# Altium footprint library Kemet.PcbLib: 32 footprints (part 2 of 2)
Each footprint in its own frame and in the unit in brackets; x right, y up, seen from the top. Pads: shape width x height; smd on the part's side, far side on the other; paste and mask are expansions set on the pad; w line width, h text height; cw(c..) or ccw(c..) is an arc to the next point about the centre after c.
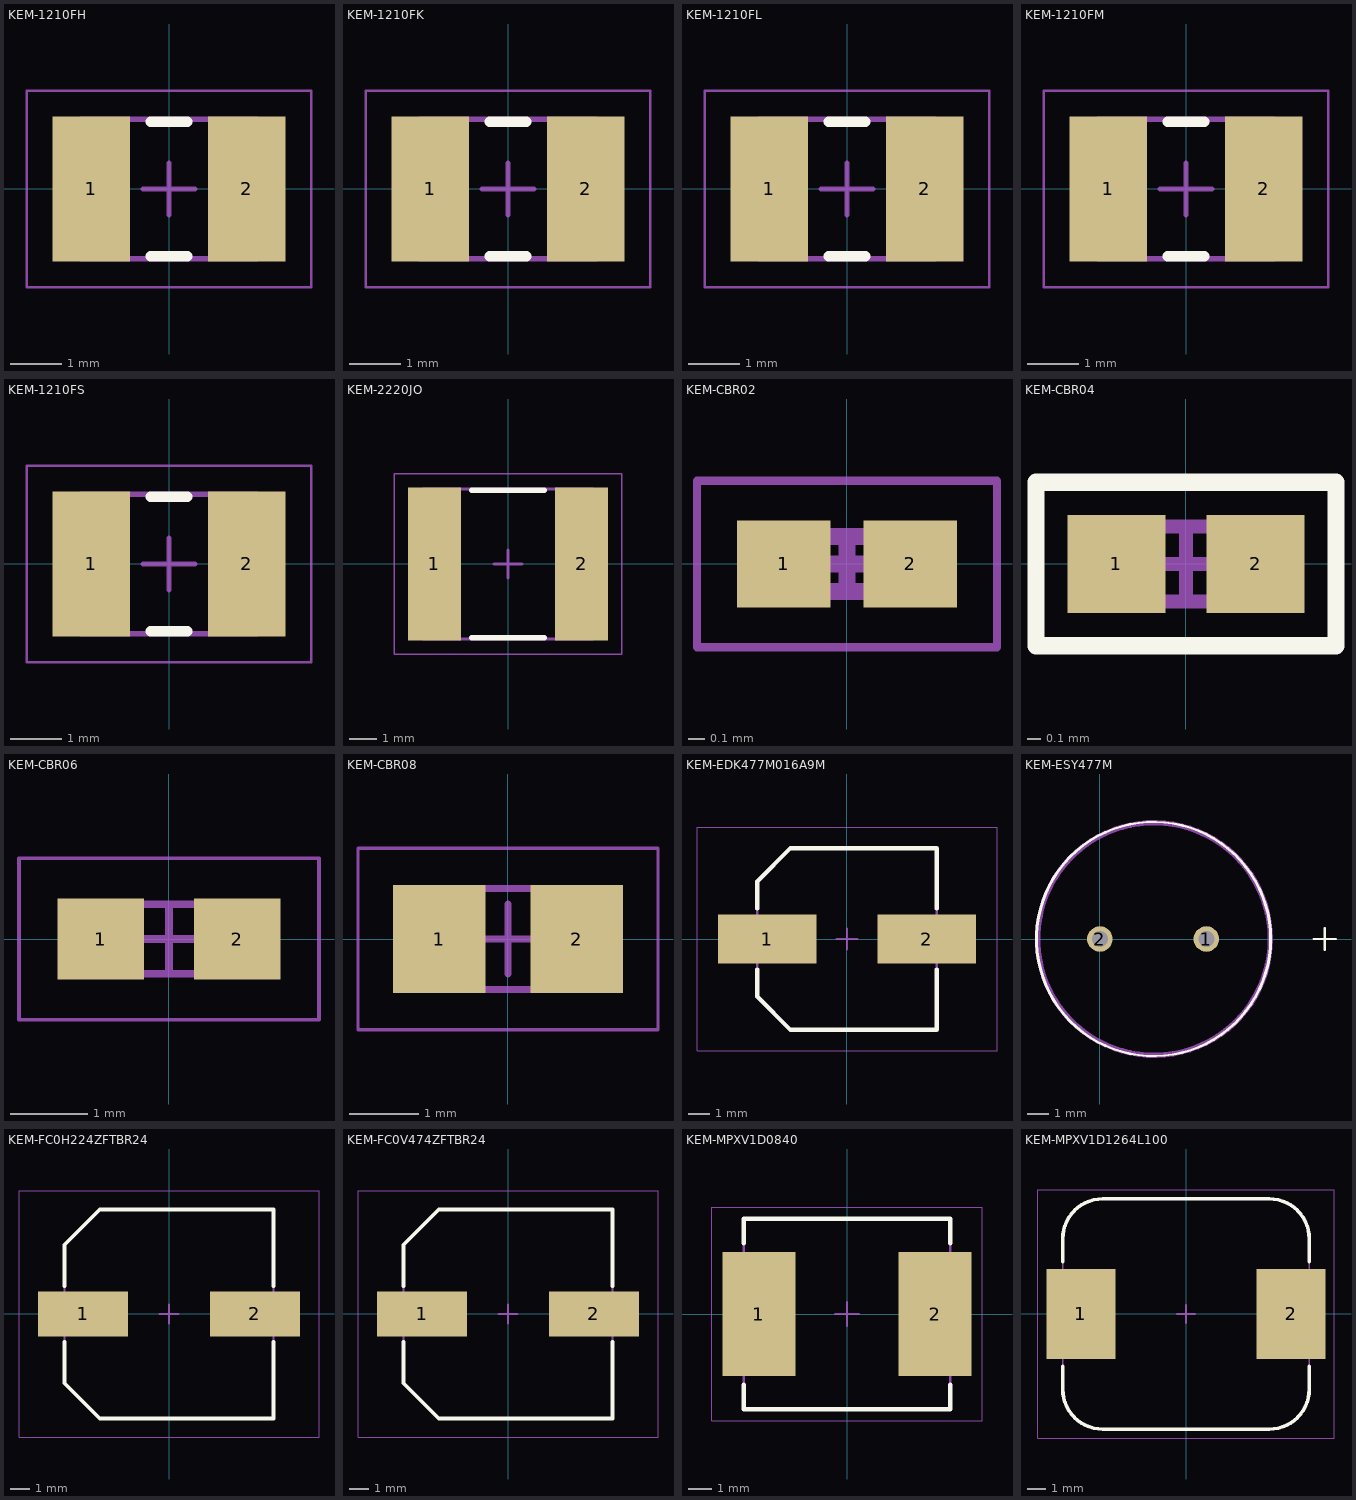
[diagram p1: the footprints below, top view; thin cyan lines are the x and y axes]

## KEM-1210FH [mm] "Chip Capacitor, 2-Leads, Body 3.20x2.50mm, IPC Low Density"
height 1.7
pads (2):
  rect 1.5x2.8 smd: 1(-1.5,0) 2(1.5,0)
Top Overlay:
  lines w0.2: -0.35,-1.3 0.35,-1.3 ; -0.35,1.3 0.35,1.3
Mechanical 13:
  lines w0.1: -1.7,-1.35 1.7,-1.35 1.7,1.35 -1.7,1.35 -1.7,-1.35
Mechanical 15:
  lines w0.05: -2.75,-1.9 2.75,-1.9 2.75,1.9 -2.75,1.9 -2.75,-1.9
  lines w0.1: -0.5,0 0.5,0 ; 0,-0.5 0,0.5
3D body: height 1.7, standoff 0, extent 1.2,-1.35 1.7,1.35
3D body: height 1.7, standoff 0, extent -1.7,-1.35 -1.2,1.35
3D body: height 1.7, standoff 0, extent -1.2,-1.35 1.2,1.35

## KEM-1210FK [mm] "Chip Capacitor, 2-Leads, Body 3.20x2.50mm, IPC Low Density"
height 2.3
pads (2):
  rect 1.5x2.8 smd: 1(-1.5,0) 2(1.5,0)
Top Overlay:
  lines w0.2: -0.35,-1.3 0.35,-1.3 ; -0.35,1.3 0.35,1.3
Mechanical 13:
  lines w0.1: -1.7,-1.35 -1.7,1.35 1.7,1.35 1.7,-1.35 -1.7,-1.35
Mechanical 15:
  lines w0.05: -2.75,-1.9 -2.75,1.9 2.75,1.9 2.75,-1.9 -2.75,-1.9
  lines w0.1: -0.5,0 0.5,0 ; 0,-0.5 0,0.5
3D body: height 2.3, standoff 0, extent -1.2,-1.35 1.2,1.35
3D body: height 2.3, standoff 0, extent -1.7,-1.35 -1.2,1.35
3D body: height 2.3, standoff 0, extent 1.2,-1.35 1.7,1.35

## KEM-1210FL [mm] "Chip Capacitor, 2-Leads, Body 3.20x2.50mm, IPC Low Density"
height 1.55
pads (2):
  rect 1.5x2.8 smd: 1(-1.5,0) 2(1.5,0)
Top Overlay:
  lines w0.2: -0.35,-1.3 0.35,-1.3 ; -0.35,1.3 0.35,1.3
Mechanical 13:
  lines w0.1: -1.7,-1.35 1.7,-1.35 1.7,1.35 -1.7,1.35 -1.7,-1.35
Mechanical 15:
  lines w0.05: -2.75,-1.9 2.75,-1.9 2.75,1.9 -2.75,1.9 -2.75,-1.9
  lines w0.1: -0.5,0 0.5,0 ; 0,-0.5 0,0.5
3D body: height 1.55, standoff 0, extent 1.2,-1.35 1.7,1.35
3D body: height 1.55, standoff 0, extent -1.7,-1.35 -1.2,1.35
3D body: height 1.55, standoff 0, extent -1.2,-1.35 1.2,1.35

## KEM-1210FM [mm] "Chip Capacitor, 2-Leads, Body 3.20x2.50mm, IPC Low Density"
height 1.9
pads (2):
  rect 1.5x2.8 smd: 1(-1.5,0) 2(1.5,0)
Top Overlay:
  lines w0.2: -0.35,-1.3 0.35,-1.3 ; -0.35,1.3 0.35,1.3
Mechanical 13:
  lines w0.1: -1.7,-1.35 1.7,-1.35 1.7,1.35 -1.7,1.35 -1.7,-1.35
Mechanical 15:
  lines w0.05: -2.75,-1.9 2.75,-1.9 2.75,1.9 -2.75,1.9 -2.75,-1.9
  lines w0.1: -0.5,0 0.5,0 ; 0,-0.5 0,0.5
3D body: height 1.9, standoff 0, extent 1.2,-1.35 1.7,1.35
3D body: height 1.9, standoff 0, extent -1.7,-1.35 -1.2,1.35
3D body: height 1.9, standoff 0, extent -1.2,-1.35 1.2,1.35

## KEM-1210FS [mm] "Chip Capacitor, 2-Leads, Body 3.20x2.50mm, IPC Low Density"
height 2.8
pads (2):
  rect 1.5x2.8 smd: 1(-1.5,0) 2(1.5,0)
Top Overlay:
  lines w0.2: -0.35,-1.3 0.35,-1.3 ; -0.35,1.3 0.35,1.3
Mechanical 13:
  lines w0.1: -1.7,-1.35 -1.7,1.35 1.7,1.35 1.7,-1.35 -1.7,-1.35
Mechanical 15:
  lines w0.05: -2.75,-1.9 -2.75,1.9 2.75,1.9 2.75,-1.9 -2.75,-1.9
  lines w0.1: -0.5,0 0.5,0 ; 0,-0.5 0,0.5
3D body: height 2.8, standoff 0, extent -1.2,-1.35 1.2,1.35
3D body: height 2.8, standoff 0, extent -1.7,-1.35 -1.2,1.35
3D body: height 2.8, standoff 0, extent 1.2,-1.35 1.7,1.35

## KEM-2220JO [mm] "Chip Capacitor, 2-Leads, Body 5.70x5.00mm, IPC Low Density"
height 2.55
pads (2):
  rect 1.9x5.5 smd: 1(-2.65,0) 2(2.65,0)
Top Overlay:
  lines w0.2: -1.3,-2.65 1.3,-2.65 ; -1.3,2.65 1.3,2.65
Mechanical 13:
  lines w0.1: -3.05,-2.7 3.05,-2.7 3.05,2.7 -3.05,2.7 -3.05,-2.7
Mechanical 15:
  lines w0.05: -4.1,-3.25 4.1,-3.25 4.1,3.25 -4.1,3.25 -4.1,-3.25
  lines w0.1: -0.5,0 0.5,0 ; 0,-0.5 0,0.5
3D body "KEM-2220JO.step": height 2.55, standoff 0, extent -3.05,-2.7 3.05,2.7

## KEM-CBR02 [mm] "Chip Capacitor, 2-Leads, Body 0.60x0.30mm, IPC Low Density"
height 0.33
pads (2):
  rect 0.56x0.52 smd: 1(-0.38,0) 2(0.38,0)
Mechanical 13:
  lines w0.1: -0.315,-0.165 -0.315,0.165 0.315,0.165 0.315,-0.165 -0.315,-0.165
Mechanical 15:
  lines w0.05: -0.9,-0.5 -0.9,0.5 0.9,0.5 0.9,-0.5 -0.9,-0.5
  lines w0.1: -0.165,0 0.165,0 ; 0,-0.165 0,0.165
3D body "KEM-CBR02.step": height 0.33, standoff 0, extent -0.315,-0.165 0.315,0.165

## KEM-CBR04 [mm] "Chip Capacitor, 2-Leads, Body 1.00x0.50mm, IPC Low Density"
height 0.55
pads (2):
  rect 0.72x0.72 smd: 1(-0.51,0) 2(0.51,0)
Top Overlay:
  lines w0.127: -1.1,-0.6 -1.1,0.6 1.1,0.6 1.1,-0.6 -1.1,-0.6
Mechanical 13:
  lines w0.1: -0.525,-0.275 0.525,-0.275 0.525,0.275 -0.525,0.275 -0.525,-0.275
Mechanical 15:
  lines w0.05: -1.1,-0.6 -1.1,0.6 1.1,0.6 1.1,-0.6 -1.1,-0.6
  lines w0.1: -0.275,0 0.275,0 ; 0,-0.275 0,0.275
3D body "KEM-CBR04.step": height 0.55, standoff 0, extent -0.525,-0.275 0.525,0.275

## KEM-CBR06 [mm] "Chip Capacitor, 2-Leads, Body 1.60x0.80mm, IPC Low Density"
height 0.87
pads (2):
  rect 1.125x1.05 smd: 1(-0.888,0) 2(0.888,0)
Mechanical 13:
  lines w0.1: -0.85,-0.45 0.85,-0.45 0.85,0.45 -0.85,0.45 -0.85,-0.45
Mechanical 15:
  lines w0.05: -1.95,-1.05 1.95,-1.05 1.95,1.05 -1.95,1.05 -1.95,-1.05
  lines w0.1: -0.45,0 0.45,0 ; 0,-0.45 0,0.45
3D body "KEM-CBR06.step": height 0.87, standoff 0, extent -0.85,-0.45 0.85,0.45

## KEM-CBR08 [mm] "Chip Capacitor, 2-Leads, Body 2.00x1.25mm, IPC Low Density"
height 0.95
pads (2):
  rect 1.325x1.55 smd: 1(-0.988,0) 2(0.988,0)
Mechanical 13:
  lines w0.1: -1.1,-0.725 -1.1,0.725 1.1,0.725 1.1,-0.725 -1.1,-0.725
Mechanical 15:
  lines w0.05: -2.15,-1.3 -2.15,1.3 2.15,1.3 2.15,-1.3 -2.15,-1.3
  lines w0.1: -0.5,0 0.5,0 ; 0,-0.5 0,0.5
3D body "KEM-CBR08.step": height 0.95, standoff 0, extent -1.1,-0.725 1.1,0.725

## KEM-EDK477M016A9M [mm] "Aluminum Electrolytic Capacitor, Body 8.30x8.35x10.50mm, IPC Low Density"
height 10.5
pads (2):
  rect 4.65x2.3 smd: 1(-3.775,0) 2(3.775,0)
Top Overlay:
  lines w0.2: -4.25,-1.45 -4.25,-2.725 -2.675,-4.3 4.25,-4.3 4.25,-1.45 ; -4.25,1.45 -4.25,2.725 -2.675,4.3 4.25,4.3 4.25,1.45
Mechanical 13:
  lines w0.1: -4.25,-2.725 -2.675,-4.3 4.25,-4.3 4.25,4.3 -2.675,4.3 -4.25,2.725 -4.25,-2.725
Mechanical 15:
  lines w0.05: -7.1,-5.3 -7.1,5.3 7.1,5.3 7.1,-5.3 -7.1,-5.3
  lines w0.1: -0.5,0 0.5,0 ; 0,-0.5 0,0.5
3D body "KEM-EDK477M016A9M.step": height 10.5, standoff 0, extent -5,-4.3 5,4.3

## KEM-ESY477M [mm]
pads (2):
  round 1.2 hole 0.75: 1(5,0) 2(0,0)
Top Overlay:
  circle w0.1: c2.5,0 r5.5
  circle w0.1: c2.54,0 r5.5
  circle w0.1: c2.54,0 r5.5
  circle w0.1: c2.5,0 r5.5
  lines w0.1: 10.032,0 11.048,0 10.032,0 ; 10.072,0 11.088,0 10.072,0 ; 10.54,-0.508 10.54,0.508 10.54,-0.508 ; 10.58,-0.508 10.58,0.508 10.58,-0.508
Mechanical 1:
  text "'.Designator'" at 10.54,-1.524 h0.7
Mechanical 13:
  circle w0.254: c2.54,0 r5.462
  pour cut-out: 3.81,1.016

## KEM-FC0H224ZFTBR24 [mm] "Aluminum Electrolytic Capacitor, Body 10.80x10.80x8.50mm, IPC Low Density"
height 8.5
pads (2):
  rect 4.75x2.35 smd: 1(-4.525,0) 2(4.525,0)
Top Overlay:
  lines w0.2: -5.5,-1.475 -5.5,-3.644 -3.644,-5.5 5.5,-5.5 5.5,-1.475 ; -5.5,1.475 -5.5,3.644 -3.644,5.5 5.5,5.5 5.5,1.475
Mechanical 13:
  lines w0.1: -5.5,-3.644 -3.644,-5.5 5.5,-5.5 5.5,5.5 -3.644,5.5 -4.185,4.959 -4.959,4.185 -5.5,3.644 -5.5,-3.644
Mechanical 15:
  lines w0.05: -7.9,-6.5 -7.9,6.5 7.9,6.5 7.9,-6.5 -7.9,-6.5
  lines w0.1: -0.5,0 0.5,0 ; 0,-0.5 0,0.5
3D body "FC0V474ZFTBR24.stp": height 8.56, standoff 0, extent -6.604,-5.398 6.604,5.398

## KEM-FC0V474ZFTBR24 [mm] "Aluminum Electrolytic Capacitor, Body 10.80x10.80x8.50mm, IPC Low Density"
height 8.5
pads (2):
  rect 4.75x2.35 smd: 1(-4.525,0) 2(4.525,0)
Top Overlay:
  lines w0.2: -5.5,-1.475 -5.5,-3.644 -3.644,-5.5 5.5,-5.5 5.5,-1.475 ; -5.5,1.475 -5.5,3.644 -3.644,5.5 5.5,5.5 5.5,1.475
Mechanical 13:
  lines w0.1: -5.5,-3.644 -3.644,-5.5 5.5,-5.5 5.5,5.5 -3.644,5.5 -4.185,4.959 -4.959,4.185 -5.5,3.644 -5.5,-3.644
Mechanical 15:
  lines w0.05: -7.9,-6.5 -7.9,6.5 7.9,6.5 7.9,-6.5 -7.9,-6.5
  lines w0.1: -0.5,0 0.5,0 ; 0,-0.5 0,0.5
3D body "FC0V474ZFTBR24.stp": height 8.56, standoff 0, extent -6.604,-5.398 6.604,5.398

## KEM-MPXV1D0840 [mil] "Precision Wire Wound Inductor, 2-Leads, Body 8.65x8.00mm, IPC Low Density"
height 157.48
pads (2):
  rect 122.99x210 smd: 1(-149.13,0) 2(149.13,0)
Top Overlay:
  lines w7.87: -175.2,-120.08 -175.2,-161.42 175.2,-161.42 175.2,-120.08 ; -175.2,120.08 -175.2,161.42 175.2,161.42 175.2,120.08
Top Assembly:
  lines w3.94: -175.2,-161.42 175.2,-161.42 175.2,161.42 -175.2,161.42 -175.2,-161.42
Top Courtyard:
  lines w1.97: -229.33,-181.1 229.33,-181.1 229.33,181.1 -229.33,181.1 -229.33,-181.1
  lines w3.94: -19.69,0 19.68,0 ; 0,-19.68 0,19.68
3D body: height 157.48, standoff 0, extent -175.2,-161.42 175.2,161.42

## KEM-MPXV1D1264L100 [mm] "Precision Wire Wound Inductor, 2-Leads, Body 13.20x12.50mm, IPC Low Density"
height 6.4
pads (2):
  rect 3.8x4.95 smd: 1(-5.8,0) 2(5.8,0)
Top Overlay:
  lines w0.2: -6.8,-2.875 -6.8,-4.15 ccw(c-4.6,-4.15) -4.6,-6.35 4.597,-6.35 ; -6.8,2.875 -6.8,4.15 cw(c-4.6,4.15) -4.6,6.35 4.597,6.35 ; 4.6,-6.35 ccw(c4.6,-4.15) 6.8,-4.15 6.8,-2.875 ; 4.6,6.35 cw(c4.6,4.15) 6.8,4.15 6.8,2.875
Top Assembly:
  lines w0.1: 4.597,-6.35 -4.6,-6.35 cw(c-4.6,-4.15) -6.8,-4.15 -6.8,4.15 cw(c-4.6,4.15) -4.6,6.35 4.597,6.35 ; 4.6,-6.35 ccw(c4.6,-4.15) 6.8,-4.15 6.8,4.15 ccw(c4.6,4.15) 4.6,6.35
Top Courtyard:
  lines w0.05: -8.175,-6.85 8.175,-6.85 8.175,6.85 -8.175,6.85 -8.175,-6.85
  lines w0.1: -0.5,0 0.5,0 ; 0,-0.5 0,0.5
3D body: height 6.4, standoff 0, extent -6.8,-6.35 6.8,6.35